# Altium schematic symbol library SMP3V3-M3_84A.SchLib: 1 symbol
Pins are listed as number, name and electrical type; pins without a type are passive.

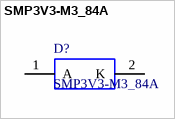
[diagram p0: symbol SMP3V3-M3_84A]

## SMP3V3-M3_84A
designator D?
Vishay SMP3V3-M3/84A Uni-Directional TVS Diode, 400W peak, 2-Pin DO-220AA; Allied_Number: 70617438; Manufacturer_Name: Vishay; Manufacturer_Part_Number: SMP3V3-M3/84A; RS Part Number: 8193888P; RS Price/Stock: http://uk.rs-online.com/web/p/products/8193888P; Allied Price/Stock: https://www.alliedelec.com/siliconix-vishay-smp3v3-m3-84a/70617438/; Arrow Part Number: SMP3V3-M3/84A; Arrow Price/Stock: https://www.arrow.com/en/products/smp3v3-m384a/vishay; Datasheet Link: http://www.vishay.com/docs/88481/smp3v3.pdf
footprint DO-220AA
pins: 1 A, 2 K